# Altium schematic symbol library SCH - ARM CORTEX - STM STM32F401C(B-C)Ux.SchLib: 1 symbol
Pins are listed as number, name and electrical type; pins without a type are passive.

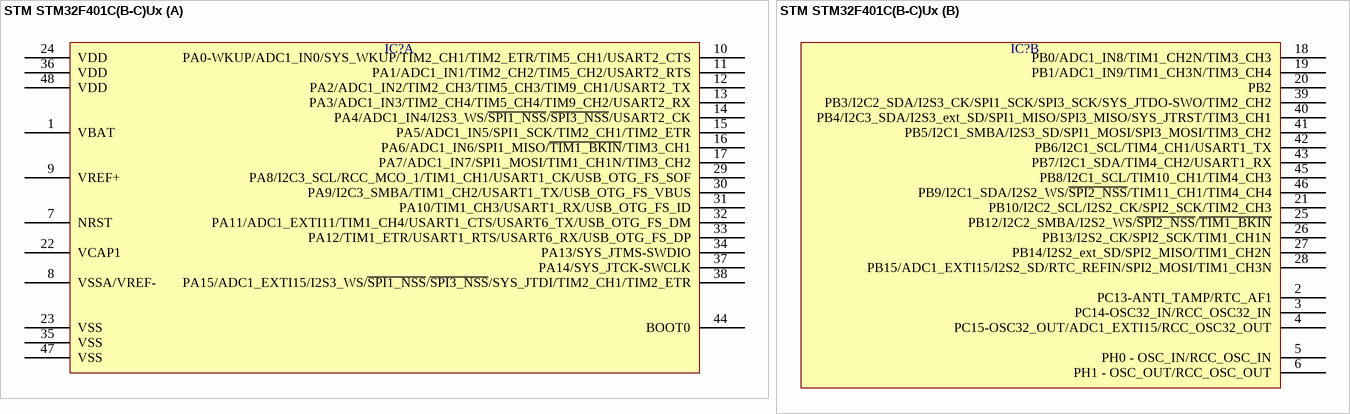
[diagram p0: symbol STM STM32F401C(B-C)Ux]

## STM STM32F401C(B-C)Ux
designator IC?  (value not drawn)
part A pins: 1 VBAT, 7 NRST, 8 VSSA/VREF-, 9 VREF+, 10 PA0-WKUP/ADC1_IN0/SYS_WKUP/TIM2_CH1/TIM2_ETR/TIM5_CH1/USART2_CTS, 11 PA1/ADC1_IN1/TIM2_CH2/TIM5_CH2/USART2_RTS, 12 PA2/ADC1_IN2/TIM2_CH3/TIM5_CH3/TIM9_CH1/USART2_TX, 13 PA3/ADC1_IN3/TIM2_CH4/TIM5_CH4/TIM9_CH2/USART2_RX, 14 PA4/ADC1_IN4/I2S3_WS/~{SPI1_NSS}/~{SPI3_NSS}/USART2_CK, 15 PA5/ADC1_IN5/SPI1_SCK/TIM2_CH1/TIM2_ETR, 16 PA6/ADC1_IN6/SPI1_MISO/~{TIM1_BKIN}/TIM3_CH1, 17 PA7/ADC1_IN7/SPI1_MOSI/TIM1_CH1N/TIM3_CH2, 22 VCAP1, 23 VSS, 24 VDD, 29 PA8/I2C3_SCL/RCC_MCO_1/TIM1_CH1/USART1_CK/USB_OTG_FS_SOF, 30 PA9/I2C3_SMBA/TIM1_CH2/USART1_TX/USB_OTG_FS_VBUS, 31 PA10/TIM1_CH3/USART1_RX/USB_OTG_FS_ID, 32 PA11/ADC1_EXTI11/TIM1_CH4/USART1_CTS/USART6_TX/USB_OTG_FS_DM, 33 PA12/TIM1_ETR/USART1_RTS/USART6_RX/USB_OTG_FS_DP, 34 PA13/SYS_JTMS-SWDIO, 35 VSS, 36 VDD, 37 PA14/SYS_JTCK-SWCLK, 38 PA15/ADC1_EXTI15/I2S3_WS/~{SPI1_NSS}/~{SPI3_NSS}/SYS_JTDI/TIM2_CH1/TIM2_ETR, 44 BOOT0, 47 VSS, 48 VDD
part B pins: 2 PC13-ANTI_TAMP/RTC_AF1, 3 PC14-OSC32_IN/RCC_OSC32_IN, 4 PC15-OSC32_OUT/ADC1_EXTI15/RCC_OSC32_OUT, 5 PH0 - OSC_IN/RCC_OSC_IN, 6 PH1 - OSC_OUT/RCC_OSC_OUT, 18 PB0/ADC1_IN8/TIM1_CH2N/TIM3_CH3, 19 PB1/ADC1_IN9/TIM1_CH3N/TIM3_CH4, 20 PB2, 21 PB10/I2C2_SCL/I2S2_CK/SPI2_SCK/TIM2_CH3, 25 PB12/I2C2_SMBA/I2S2_WS/~{SPI2_NSS}/~{TIM1_BKIN}, 26 PB13/I2S2_CK/SPI2_SCK/TIM1_CH1N, 27 PB14/I2S2_ext_SD/SPI2_MISO/TIM1_CH2N, 28 PB15/ADC1_EXTI15/I2S2_SD/RTC_REFIN/SPI2_MOSI/TIM1_CH3N, 39 PB3/I2C2_SDA/I2S3_CK/SPI1_SCK/SPI3_SCK/SYS_JTDO-SWO/TIM2_CH2, 40 PB4/I2C3_SDA/I2S3_ext_SD/SPI1_MISO/SPI3_MISO/SYS_JTRST/TIM3_CH1, 41 PB5/I2C1_SMBA/I2S3_SD/SPI1_MOSI/SPI3_MOSI/TIM3_CH2, 42 PB6/I2C1_SCL/TIM4_CH1/USART1_TX, 43 PB7/I2C1_SDA/TIM4_CH2/USART1_RX, 45 PB8/I2C1_SCL/TIM10_CH1/TIM4_CH3, 46 PB9/I2C1_SDA/I2S2_WS/~{SPI2_NSS}/TIM11_CH1/TIM4_CH4